# EAGLE library part K9WAG08U1A (library diode-20CJQ030)
Samsung's K9WAG08U1A 1G x 8 Bit / 2G x 8 Bit / 4G x 8 Bit NAND Flash Memory Description: Offered in 1G x 8bit, the K9K8G08U0A is a 8G-bit NAND Flash Memory with spare 256M-bit. Its NAND cell provides the most costeffective solution for the solid state application market. A program operation can be performed in typical 200µs on the (2K+64)Byte page and an erase operation can be performed in typical 1.5ms on a (128K+4K)Byte block. Data in the data register can be read out at 25ns(K9NBG08U5A : 50ns) cycle time per Byte. The I/O pins serve as the ports for address and data input/output as well as command input. The on-chip write controller automates all program and erase functions including pulse repetition, where required, and internal verification and margining of data. Even the write-intensive systems can take advantage of the K9K8G08U0A?s extended reliability of 100K program/erase cycles by providing ECC(Error Correcting Code) with real time mapping-out algorithm. The K9K8G08U0A is an optimum solution for large nonvolatile storage applications such as solid state file storage and other portable applications requiring non-volatility. An ultra high density solution having two 8Gb stacked with two chip selects is also available in standard TSOPI package and another ultra high density solution having two 16Gb TSOPI package stacked with four chip selects is also available in TSOPI-DSP. Features: Voltage Supply - 2.70V ~ 3.60V Organization - Memory Cell Array : (1G + 32M) - Data Register : (2K + 64) x 8bit Automatic Program and Erase - Page Program : (2K + 64)Byte - Block Erase : (128K + 4K)Byte Page Read Operation - Page Size : (2K + 64)Byte - Random Read : 25µs(Max.) - Serial Access : 25ns(Min.) * K9NBG08U5A : 50ns(Min.) Fast Write Cycle Time - Page Program time : 200µs(Typ.) - Block Erase Time : 1.5ms(Typ.) Command/Address/Data Multiplexed I/O Port Hardware Data Protection - Program/Erase Lockout During Power Transitions Reliable CMOS Floating-Gate Technology - Endurance : 100K Program/Erase Cycles(with 1bit/512Byte ECC) - Data Retention : 10 Years Command Driven Operation Intelligent Copy-Back with internal 1bit/528Byte EDC Unique ID for Copyright Protection Package : - K9K8G08U0A-PCB0/PIB0 48 - Pin TSOP I (12 x 20 / 0.5 mm pitch) - K9WAG08U1A-PCB0/PIB0 48 - Pin TSOP I (12 x 20 / 0.5 mm pitch) - K9WAG08U1A-ICB0/IIB0 52 - Pin TLGA (12 x 17 / 1.0 mm pitch) - K9NBG08U5A-PCB0/PIB0 48 - Pin TSOP I (12 x 20 / 0.5 mm pitch) Please send any comments to: messi@users.sourceforge.net
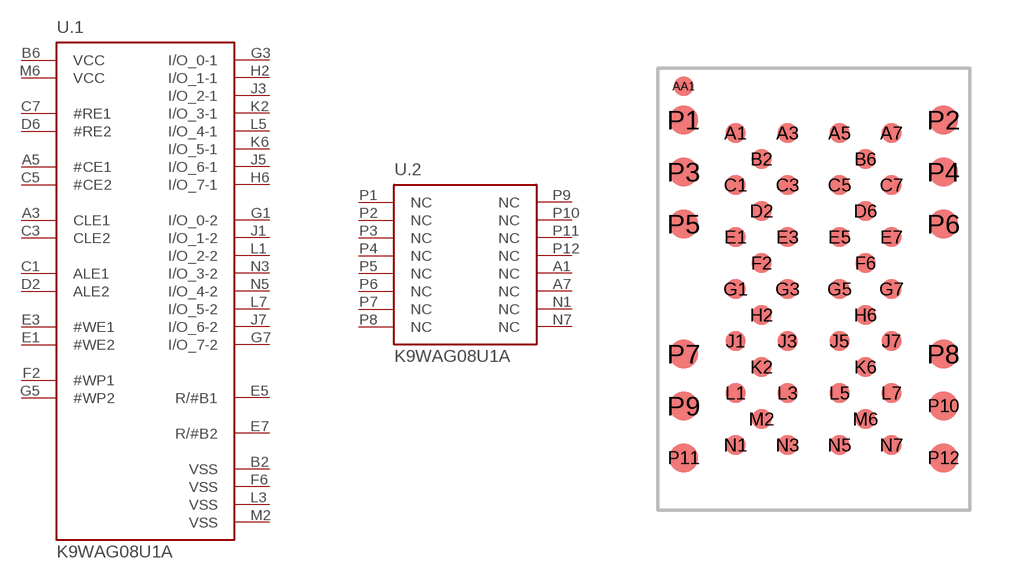
[diagram p177: symbol with the pads of 52-TLGA; footprint 52-TLGA]

Designator prefix U; gates .1=K9WAG08U1A .2=K9WAG08U1A_NC

## K9WAG08U1A-I  [52-TLGA]
A1  .2:NC  nc
A3  .1:CLE1  in
A5  .1:#CE1  in
A7  .2:NC  nc
B2  .1:VSS  pwr
B6  .1:VCC  in
C1  .1:ALE1  in
C3  .1:CLE2  in
C5  .1:#CE2  in
C7  .1:#RE1  in
D2  .1:ALE2  in
D6  .1:#RE2  in
E1  .1:#WE2  in
E3  .1:#WE1  in
E5  .1:R/#B1  in
E7  .1:R/#B2  in
F2  .1:#WP1  in
F6  .1:VSS  pwr
G1  .1:I/O_0-2
G3  .1:I/O_0-1
G5  .1:#WP2  in
G7  .1:I/O_7-2
H2  .1:I/O_1-1
H6  .1:I/O_7-1
J1  .1:I/O_1-2
J3  .1:I/O_2-1
J5  .1:I/O_6-1
J7  .1:I/O_6-2
K2  .1:I/O_3-1
K6  .1:I/O_5-1
L1  .1:I/O_2-2
L3  .1:VSS  pwr
L5  .1:I/O_4-1
L7  .1:I/O_5-2
M2  .1:VSS  pwr
M6  .1:VCC  in
N1  .2:NC  nc
N3  .1:I/O_3-2
N5  .1:I/O_4-2
N7  .2:NC  nc
P1  .2:NC  nc
P2  .2:NC  nc
P3  .2:NC  nc
P4  .2:NC  nc
P5  .2:NC  nc
P6  .2:NC  nc
P7  .2:NC  nc
P8  .2:NC  nc
P9  .2:NC  nc
P10  .2:NC  nc
P11  .2:NC  nc
P12  .2:NC  nc

## Footprint 52-TLGA (pad centres in mm)
Smasung's FLASH MEMORY K9WAG08U1A K9K8G08U0A K9NBG08U5A
smd 0.75 x 0.75: A1 -3,6; A3 -1,6; A5 1,6; A7 3,6; AA1 -5,7.8; B2 -2,5; B6 2,5; C1 -3,4; C3 -1,4; C5 1,4; C7 3,4; D2 -2,3; D6 2,3; E1 -3,2; E3 -1,2; E5 1,2; E7 3,2; F2 -2,1; F6 2,1; G1 -3,0; G3 -1,0; G5 1,0; G7 3,0; H2 -2,-1; H6 2,-1; J1 -3,-2; J3 -1,-2; J5 1,-2; J7 3,-2; K2 -2,-3; K6 2,-3; L1 -3,-4; L3 -1,-4; L5 1,-4; L7 3,-4; M2 -2,-5; M6 2,-5; N1 -3,-6; N3 -1,-6; N5 1,-6; N7 3,-6
smd 1.1 x 1.1: P1 -5,6.5; P2 5,6.5; P3 -5,4.5; P4 5,4.5; P5 -5,2.5; P6 5,2.5; P7 -5,-2.5; P8 5,-2.5; P9 -5,-4.5; P10 5,-4.5; P11 -5,-6.5; P12 5,-6.5